# Altium schematic symbol library W25Q32JVSSIQ_TR.SchLib: 1 symbol
Pins are listed as number, name and electrical type; pins without a type are passive.

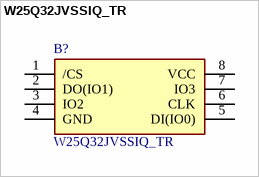
[diagram p0: symbol W25Q32JVSSIQ_TR]

## W25Q32JVSSIQ_TR
designator B?
NOR Flash spiFlash, 32M-bit, DTR, 4Kb Uniform Sector; Manufacturer_Name: Winbond; Manufacturer_Part_Number: W25Q32JVSSIQ TR; Geometry.Height: 2.16mm; Mouser Part Number: 454-W25Q32JVSSIQTR; Mouser Price/Stock: https://www.mouser.co.uk/ProductDetail/Winbond/W25Q32JVSSIQ-TR?qs=qSfuJ%252Bfl%2Fd73AdQzQa%2FEuA%3D%3D; Arrow Part Number: W25Q32JVSSIQ TR; Arrow Price/Stock: https://www.arrow.com/en/products/w25q32jvssiqtr/winbond-electronics?utm_currency=USD&region=nac; Datasheet Link: https://www.winbond.com/resource-files/w25q32jv%20spi%20revc%2008302016.pdf
footprint SOIC127P790X216-8N
pins: 1 /CS, 2 DO(IO1), 3 IO2, 4 GND, 5 DI(IO0), 6 CLK, 7 IO3, 8 VCC